# Altium schematic symbol library OpBots.SchLib: 44 symbols
Pins are listed as number, name and electrical type; pins without a type are passive.

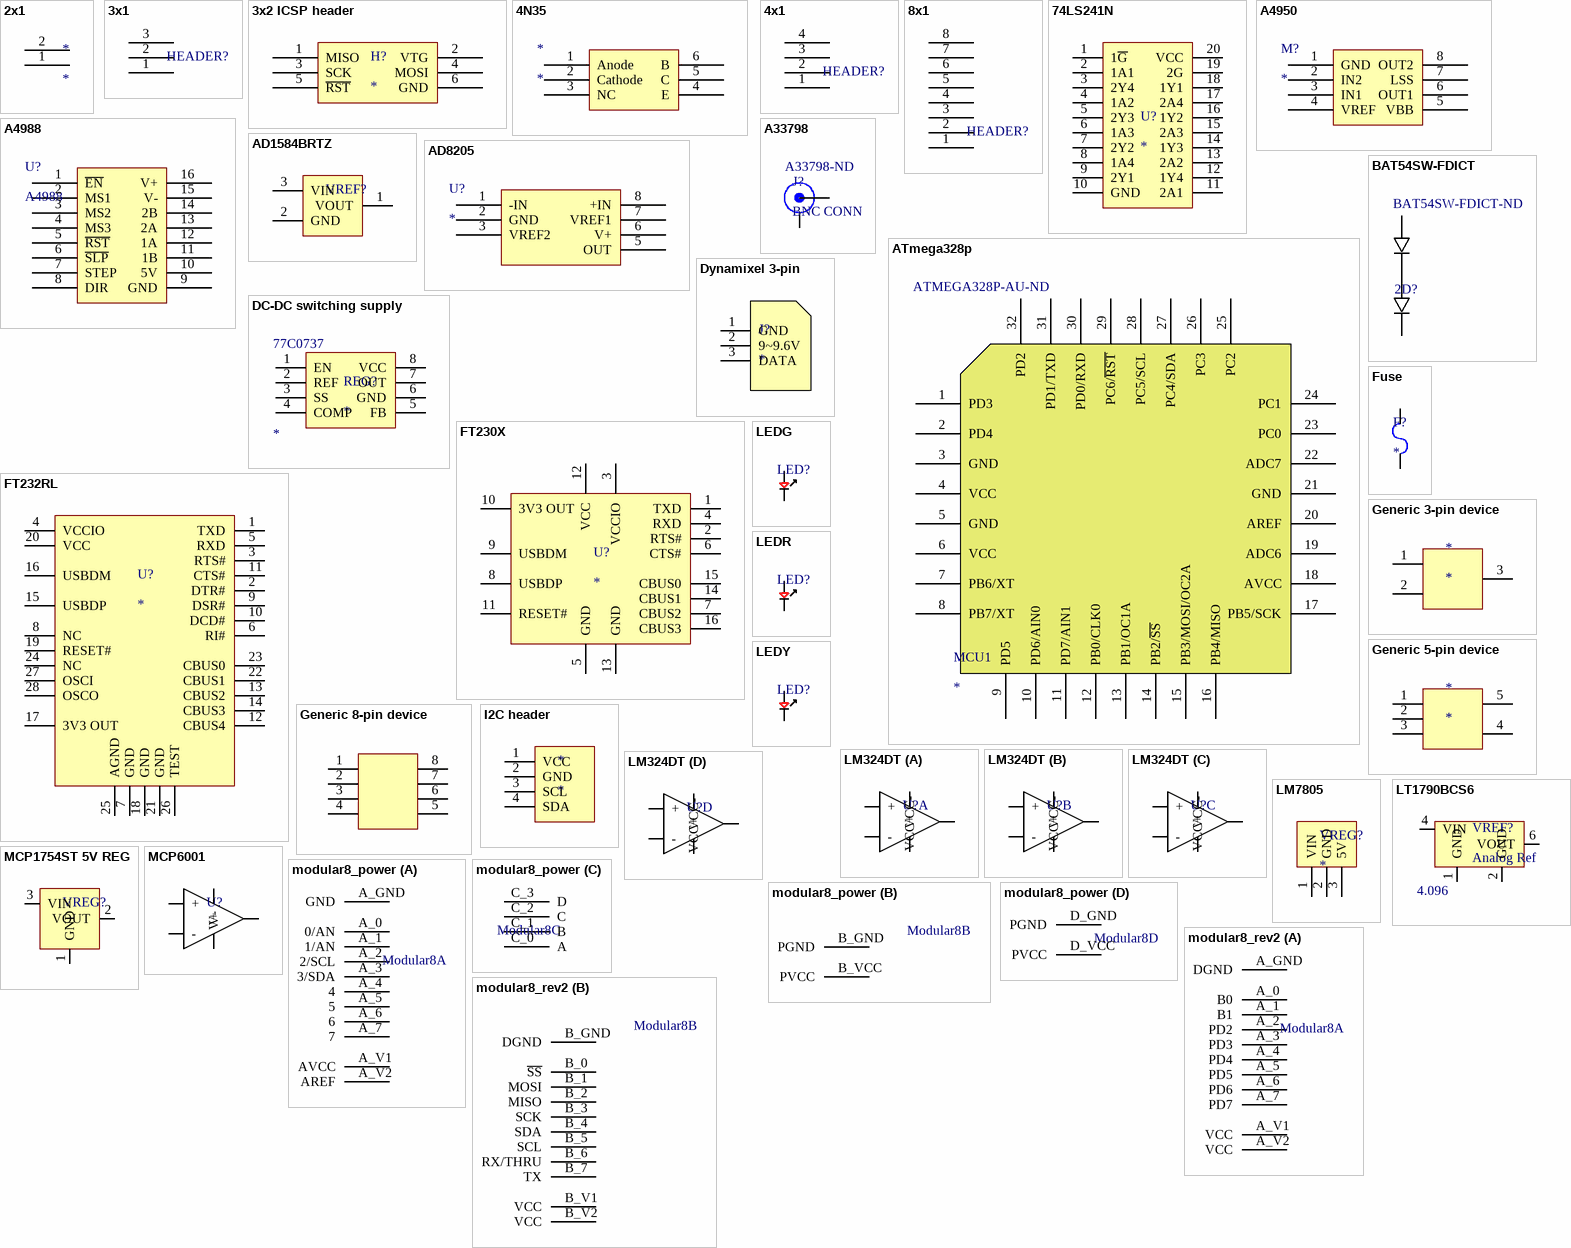
[diagram p0: symbols 2x1 to modular8_rev2]

## 2x1
designator *
footprint 2x1 THRU HOLES 0.1" PITCH
pins: 1, 2

## 3x1
designator HEADER?  (value not drawn)
footprint 3x1 THRU HOLES 0.1" PITCH
pins: 1, 2, 3

## 3x2 ICSP header
designator H?
Supplier 1: Digi-Key; Supplier Part Number 1: 609-3234-ND
footprint 3x2 THRU HOLES 0.1" PITCH
pins: 1 MISO, 2 VTG, 3 SCK, 4 MOSI, 5 ~{RST}, 6 GND

## 4N35
designator *
footprint DIP6LGE
pins: 1 Anode, 2 Cathode, 3 NC, 4 E, 5 C, 6 B

## 4x1
designator HEADER?  (value not drawn)
footprint 4x1 THRU HOLES 0.1" PITCH
pins: 1, 2, 3, 4

## 8x1
designator HEADER?  (value not drawn)
footprint 8x1 THRU HOLES 0.1" PITCH
pins: 1, 2, 3, 4, 5, 6, 7, 8

## 74LS241N
designator U?
pins: 1 1~{G}, 2 1A1, 3 2Y4, 4 1A2, 5 2Y3, 6 1A3, 7 2Y2, 8 1A4, 9 2Y1, 10 GND, 11 2A1, 12 1Y4, 13 2A2, 14 1Y3, 15 2A3, 16 1Y2, 17 2A4, 18 1Y1, 19 2G, 20 VCC

## A4950
designator M?
Supplier 1: Digi-Key; Supplier Part Number 1: 620-1400-1-ND
footprint SOICN8 thermal pad
pins: 1 GND, 2 IN2, 3 IN1, 4 VREF, 5 VBB, 6 OUT1, 7 LSS, 8 OUT2

## A4988
designator U?
footprint DIP16WIDE5 (For Stepper Driver mount)
pins: 1 ~{EN}, 2 MS1, 3 MS2, 4 MS3, 5 ~{RST}, 6 ~{SLP}, 7 STEP, 8 DIR, 9 GND, 10 5V, 11 1B, 12 1A, 13 2A, 14 2B, 15 V-, 16 V+

## A33798
designator J?, comment BNC CONN  Supplier Part Number 1: A33798-ND
Supplier 1: Digi-Key
footprint BNC THROUGH HOLE
pins: 1 G, 2 S

## AD1584BRTZ
designator VREF?  (value not drawn)
V: 4.096V; Supplier 1: Digi-Key; Supplier Part Number 1: AD1584BRTZ-REEL7CT-ND
footprint SOT-23-3
pins: 1 VOUT, 2 GND, 3 VIN

## AD8205
designator U?
pins: 1 -IN, 2 GND, 3 VREF2, 5 OUT, 6 V+, 7 VREF1, 8 +IN

## ATmega328p
designator MCU1  Supplier Part Number 1: ATMEGA328P-AU-ND
Supplier 1: Digi-Key
footprint ATmega328p TQFP
pins: 1 PD3 "OC2B/INT1/PCINT19", 2 PD4 "T0/XCK", 3 GND, 4 VCC, 5 GND, 6 VCC, 7 PB6/XT "XTAL1", 8 PB7/XT "XTAL2", 9 PD5 "T1/OC0B/PCINT21", 10 PD6/AIN0 "AIN0/OC0A/PCINT22", 11 PD7/AIN1 "AIN1/PCINT23", 12 PB0/CLK0 "CLK0/ICP1/PCINT0", 13 PB1/OC1A "OC1A/PCINT1", 14 PB2/~{SS} "S\S\/OC1B/PCINT2", 15 PB3/MOSI/OC2A "MOSI/OC2A/PCINT3", 16 PB4/MISO "MISO/PCINT4", 17 PB5/SCK "SCK/PCINT5", 18 AVCC, 19 ADC6, 20 AREF, 21 GND, 22 ADC7, 23 PC0 "PCINT8", 24 PC1 "PCINT9", 25 PC2 "PCINT10", 26 PC3 "PCINT11", 27 PC4/SDA "SDA/PCINT12", 28 PC5/SCL "SCL/PCINT13", 29 PC6/~{RST} "R\S\T\/PCINT14", 30 PD0/RXD "RXD/PCINT16", 31 PD1/TXD "TXD/PCINT17", 32 PD2 "INT0/PCINT18"

## BAT54SW-FDICT
designator 2D?  Supplier Part Number 1: BAT54SW-FDICT-ND  (hidden comment: *)
Supplier 1: Digi-Key
footprint SOT-23-3
pins: 1, 2, 3

## DC-DC switching supply
designator REG?  Supplier Part Number 1: 77C0737
Supplier 1: Newark; VOUT: *
pins: 1 EN, 2 REF, 3 SS, 4 COMP, 5 FB, 6 GND, 7 OUT, 8 VCC

## Dynamixel 3-pin
designator J?
Supplier 1: Digi-Key; Supplier Part Number 1: WM18887-ND
footprint DYNAMIXEL 3-PIN
pins: 1 GND, 2 9~9.6V, 3 DATA

## FT230X
designator U?
Supplier 1: Digi-Key; Supplier Part Number 1: 768-1135-1-ND
footprint SSOP16
pins: 1 TXD, 2 RTS#, 3 VCCIO, 4 RXD, 5 GND, 6 CTS#, 7 CBUS2, 8 USBDP, 9 USBDM, 10 3V3 OUT, 11 RESET#, 12 VCC, 13 GND, 14 CBUS1, 15 CBUS0, 16 CBUS3

## FT232RL
designator U?
Supplier 1: Digi-Key; Supplier Part Number 1: 768-1007-1-ND
footprint SSOP28
pins: 1 TXD, 2 DTR#, 3 RTS#, 4 VCCIO, 5 RXD, 6 RI#, 7 GND, 8 NC, 9 DSR#, 10 DCD#, 11 CTS#, 12 CBUS4, 13 CBUS2, 14 CBUS3, 15 USBDP, 16 USBDM, 17 3V3 OUT, 18 GND, 19 RESET#, 20 VCC, 21 GND, 22 CBUS1, 23 CBUS0, 24 NC, 25 AGND, 26 TEST, 27 OSCI, 28 OSCO

## Fuse
designator F?
Current rating: *
pins: 1, 2

## Generic 3-pin device
designator *
footprint SOT-23-3
pins: 1, 2, 3

## Generic 5-pin device
designator *
footprint SOT-23-5
pins: 1, 2, 3, 4, 5

## Generic 8-pin device
designator ?  (value not drawn)
footprint SOIC8
pins: 1, 2, 3, 4, 5, 6, 7, 8

## I2C header
designator *
footprint 4x1 THRU HOLES 0.1" PITCH
pins: 1 VCC, 2 GND, 3 SCL, 4 SDA

## LEDG
designator LED?  (value not drawn)
Supplier 1: Digi-Key; Supplier Part Number 1: 160-1423-1-ND
footprint 0805 - LED
pins: 1 A, 2 K

## LEDR
designator LED?  (value not drawn)
Supplier 1: Digi-Key; Supplier Part Number 1: 475-2512-1-ND; Supplier 2: Digi-Key; Supplier Part Number 2: 160-1427-1-ND
footprint 0805 - LED
footprint 0603 - LED
pins: 1 A, 2 K

## LEDY
designator LED?  (value not drawn)
Supplier 1: Digi-Key; Supplier Part Number 1: 160-1413-1-ND
footprint 0805 - LED
pins: 1 A, 2 K

## LM324DT
designator U?  (value not drawn)
Supplier 1: Digi-Key; Supplier Part Number 1: 497-1580-1-ND
footprint SO14
part A pins: 1 OUT, 2 -, 3 +, 4 VCC+, 11 VCC-
part B pins: 4 VCC+, 5 +, 6 -, 7 OUT, 11 VCC-
part C pins: 4 VCC+, 8 OUT, 9 -, 10 +, 11 VCC-
part D pins: 4 VCC+, 11 VCC-, 12 +, 13 -, 14 OUT

## LM7805
designator VREG?
pins: 1 VIN, 2 GND, 3 5V

## LT1790BCS6
designator VREF?, comment Analog Ref  VREF: 4.096
Supplier 1: Digi-Key; Supplier Part Number 1: LT1790BCS6-4.096#TRMPBFCT-ND
footprint TSOT-23-6
pins: 1 GND, 2 GND, 4 VIN, 6 VOUT

## MCP1754ST 5V REG
designator VREG?  (value not drawn)
VOUT: 5V; Supplier 1: Digi-Key; Supplier Part Number 1: MCP1754ST-5002E/CBCT-ND
footprint SOT-23-3
pins: 1 GND, 2 VOUT, 3 VIN

## MCP6001
designator U?  (value not drawn)
Supplier 1: Digi-Key; Supplier Part Number 1: MCP6001UT-I/OTCT-ND
footprint SOT-23-5
pins: 1 OUT, 2 V-, 3 +, 4 -, 5 V+

## modular8_power
designator Modular8  (value not drawn)
footprint modular8 metric power
part A pins: A_0 0/AN, A_1 1/AN, A_2 2/SCL, A_3 3/SDA, A_4 4, A_5 5, A_6 6, A_7 7, A_GND GND, A_V1 AVCC, A_V2 AREF
part B pins: B_GND PGND, B_VCC PVCC
part C pins: C_0 A, C_1 B, C_2 C, C_3 D
part D pins: D_GND PGND, D_VCC PVCC

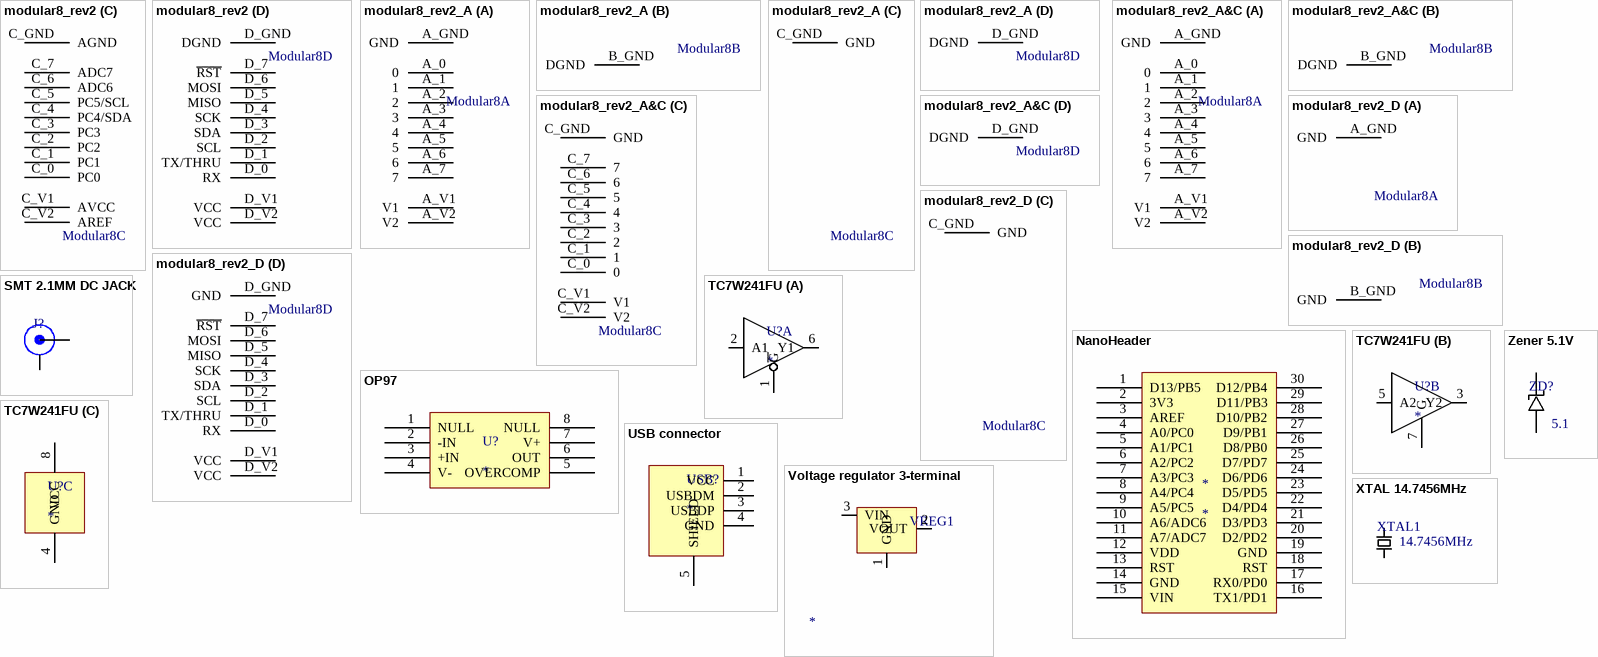
[diagram p1: symbols modular8_rev2 to Zener 5.1V]

## modular8_rev2
designator Modular8  (value not drawn)
footprint modular8 metric
part A pins: A_0 B0, A_1 B1, A_2 PD2, A_3 PD3, A_4 PD4, A_5 PD5, A_6 PD6, A_7 PD7, A_GND DGND, A_V1 VCC, A_V2 VCC
part B pins: B_0 ~{SS}, B_1 MOSI, B_2 MISO, B_3 SCK, B_4 SDA, B_5 SCL, B_6 RX/THRU, B_7 TX, B_GND DGND, B_V1 VCC, B_V2 VCC
part C pins: C_0 PC0, C_1 PC1, C_2 PC2, C_3 PC3, C_4 PC4/SDA, C_5 PC5/SCL, C_6 ADC6, C_7 ADC7, C_GND AGND, C_V1 AVCC, C_V2 AREF
part D pins: D_0 RX, D_1 TX/THRU, D_2 SCL, D_3 SDA, D_4 SCK, D_5 MISO, D_6 MOSI, D_7 ~{RST}, D_GND DGND, D_V1 VCC, D_V2 VCC

## modular8_rev2_A
designator Modular8  (value not drawn)
footprint modular8 edge A
part A pins: A_0 0, A_1 1, A_2 2, A_3 3, A_4 4, A_5 5, A_6 6, A_7 7, A_GND GND, A_V1 V1, A_V2 V2
part B pins: B_GND DGND
part C pins: C_GND GND
part D pins: D_GND DGND

## modular8_rev2_A&C
designator Modular8  (value not drawn)
footprint modular8 edges A & C
part A pins: A_0 0, A_1 1, A_2 2, A_3 3, A_4 4, A_5 5, A_6 6, A_7 7, A_GND GND, A_V1 V1, A_V2 V2
part B pins: B_GND DGND
part C pins: C_0 0, C_1 1, C_2 2, C_3 3, C_4 4, C_5 5, C_6 6, C_7 7, C_GND GND, C_V1 V1, C_V2 V2
part D pins: D_GND DGND

## modular8_rev2_D
designator Modular8  (value not drawn)
footprint modular8 edge D flipped
part A pins: A_GND GND
part B pins: B_GND GND
part C pins: C_GND GND
part D pins: D_0 RX, D_1 TX/THRU, D_2 SCL, D_3 SDA, D_4 SCK, D_5 MISO, D_6 MOSI, D_7 ~{RST}, D_GND GND, D_V1 VCC, D_V2 VCC

## NanoHeader
designator *
footprint DIP30W Nano (Arduino Nano header)
pins: 1 D13/PB5, 2 3V3, 3 AREF, 4 A0/PC0, 5 A1/PC1, 6 A2/PC2, 7 A3/PC3, 8 A4/PC4, 9 A5/PC5, 10 A6/ADC6, 11 A7/ADC7, 12 VDD, 13 RST, 14 GND, 15 VIN, 16 TX1/PD1, 17 RX0/PD0, 18 RST, 19 GND, 20 D2/PD2, 21 D3/PD3, 22 D4/PD4, 23 D5/PD5, 24 D6/PD6, 25 D7/PD7, 26 D8/PB0, 27 D9/PB1, 28 D10/PB2, 29 D11/PB3, 30 D12/PB4

## OP97
designator U?
pins: 1 NULL, 2 -IN, 3 +IN, 4 V-, 5 OVERCOMP, 6 OUT, 7 V+, 8 NULL

## SMT 2.1MM DC JACK
designator J?, comment BNC CONN  (value not drawn)
Supplier 1: Digi-Key; Supplier Part Number 1: CP-002AHPJCT-ND
footprint DC JACK 2.1MM SMT
pins: 1 S, 2 G

## TC7W241FU
designator U?
Supplier 1: Digi-Key; Supplier Part Number 1: TC7W241FUTE12LFCT-ND
footprint MSOP8
part A pins: 1 ~{G}, 2 A1, 6 Y1
part B pins: 3 Y2, 5 A2, 7 G
part C pins: 4 GND, 8 VCC

## USB connector
designator USB?
Supplier 1: Digi-Key; Supplier Part Number 1: 609-4700-1-ND
footprint USB MINI
pins: 1 VCC, 2 USBDM, 3 USBDP, 4 GND, 5 SHIELD

## Voltage regulator 3-terminal
designator VREG1
Vout: *
footprint SOT-23-3 transistor
pins: 1 GND, 2 VOUT, 3 VIN

## XTAL 14.7456MHz
designator XTAL1  Frequency: 14.7456MHz  (hidden comment: *)
Supplier 1: Digi-Key; Supplier Part Number 1: XC1775CT-ND
footprint XTAL CSM-3X
pins: 1, 2

## Zener 5.1V
designator ZD?  Voltage: 5.1  (hidden comment: *)
Supplier 1: Digi-Key; Supplier Part Number 1: UDZ5V1BF-7DICT-ND
footprint SOD-323F
pins: 1, 2